# Altium footprint library PCB - CONNECTOR - SAMTEC FTS-104-01-L-DV.PCBLIB: 1 footprints
Each footprint in its own frame and in the unit in brackets; x right, y up, seen from the top. Pads: shape width x height; smd on the part's side, far side on the other; paste and mask are expansions set on the pad; w line width, h text height; cw(c..) or ccw(c..) is an arc to the next point about the centre after c.
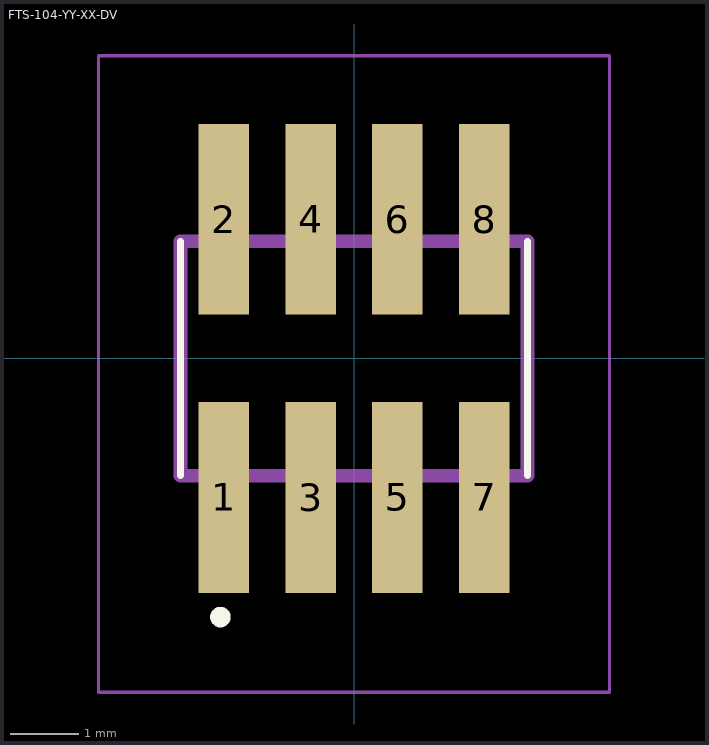
[diagram p0: the footprint, top view; thin cyan lines are the x and y axes]

## FTS-104-YY-XX-DV [mm]
pads (8):
  rect 0.74x2.79 smd: 1(-1.905,-2.035) 2(-1.905,2.035) 3(-0.635,-2.035) 4(-0.635,2.035) 5(0.635,-2.035) 6(0.635,2.035) 7(1.905,-2.035) 8(1.905,2.035)
Top Overlay:
  circle w0.2: c-1.955,-3.785 r0.05
  lines w0.1: -2.54,-1.715 -2.54,1.715 ; 2.54,-1.715 2.54,1.715
Top Assembly:
  lines w0.2: -2.54,-1.715 -2.54,1.715 2.54,1.715 2.54,-1.715 -2.54,-1.715
  text ".Designator" at -2.032,2.667 h1.52
Top Courtyard (Mech7):
  lines w0.05: -3.74,-4.885 3.74,-4.885 3.74,4.43 -3.74,4.43 -3.74,-4.885
3D body "FTS-104-01-L-DV-P-TR.stp": height 5.33, standoff 0, extent -2.54,-2.921 2.54,2.921